# EAGLE library part VDRM_171020601 (library Eagle_STEP-DOWN-CONVERTER (rev18c))
MagI³C-VDRM Variable Step Down Regulator Module 6-42V /2A /0.8-6V Output <http://katalog.we-online.de/media/images/v2/MagIC_VDRM_pf2(3).jpg> Details see: http://katalog.we-online.de/pm/datasheet/171020601.pdf
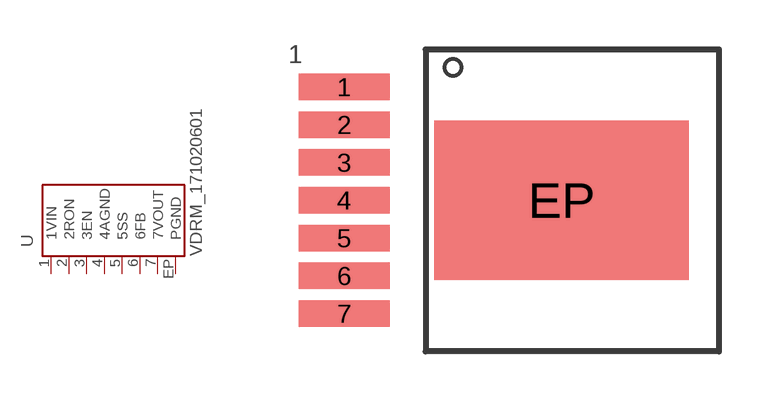
[diagram p3: symbol with the pads of VDRM_7PIN-PFM; footprint VDRM_7PIN-PFM]

Designator prefix U

## VDRM_171020601 (COMPANY-URL: http://www.we-online.de; CREATED-DATE: JAN 2014; DATASHEET-URL: http://katalog.we-online.de/pm/datasheet/171020601.pdf; MANUFACTURER: Würth Elektronik eiSos GmbH)  [VDRM_7PIN-PFM]
1  1VIN
2  2RON
3  3EN
4  4AGND
5  5SS
6  6FB
7  7VOUT
EP  PGND

## Footprint VDRM_7PIN-PFM (pad centres in mm)
smd 3.06 x 0.89: 1 -7.305,3.81; 2 -7.305,2.54; 3 -7.305,1.27; 4 -7.305,0; 5 -7.305,-1.27; 6 -7.305,-2.54; 7 -7.305,-3.81
smd 8.54 x 5.35: EP 0,0